# Altium footprint library WR-SMA.PcbLib: 26 footprints (part 1 of 2)
Each footprint in its own frame and in the unit in brackets; x right, y up, seen from the top. Pads: shape width x height; smd on the part's side, far side on the other; paste and mask are expansions set on the pad; w line width, h text height; cw(c..) or ccw(c..) is an arc to the next point about the centre after c.
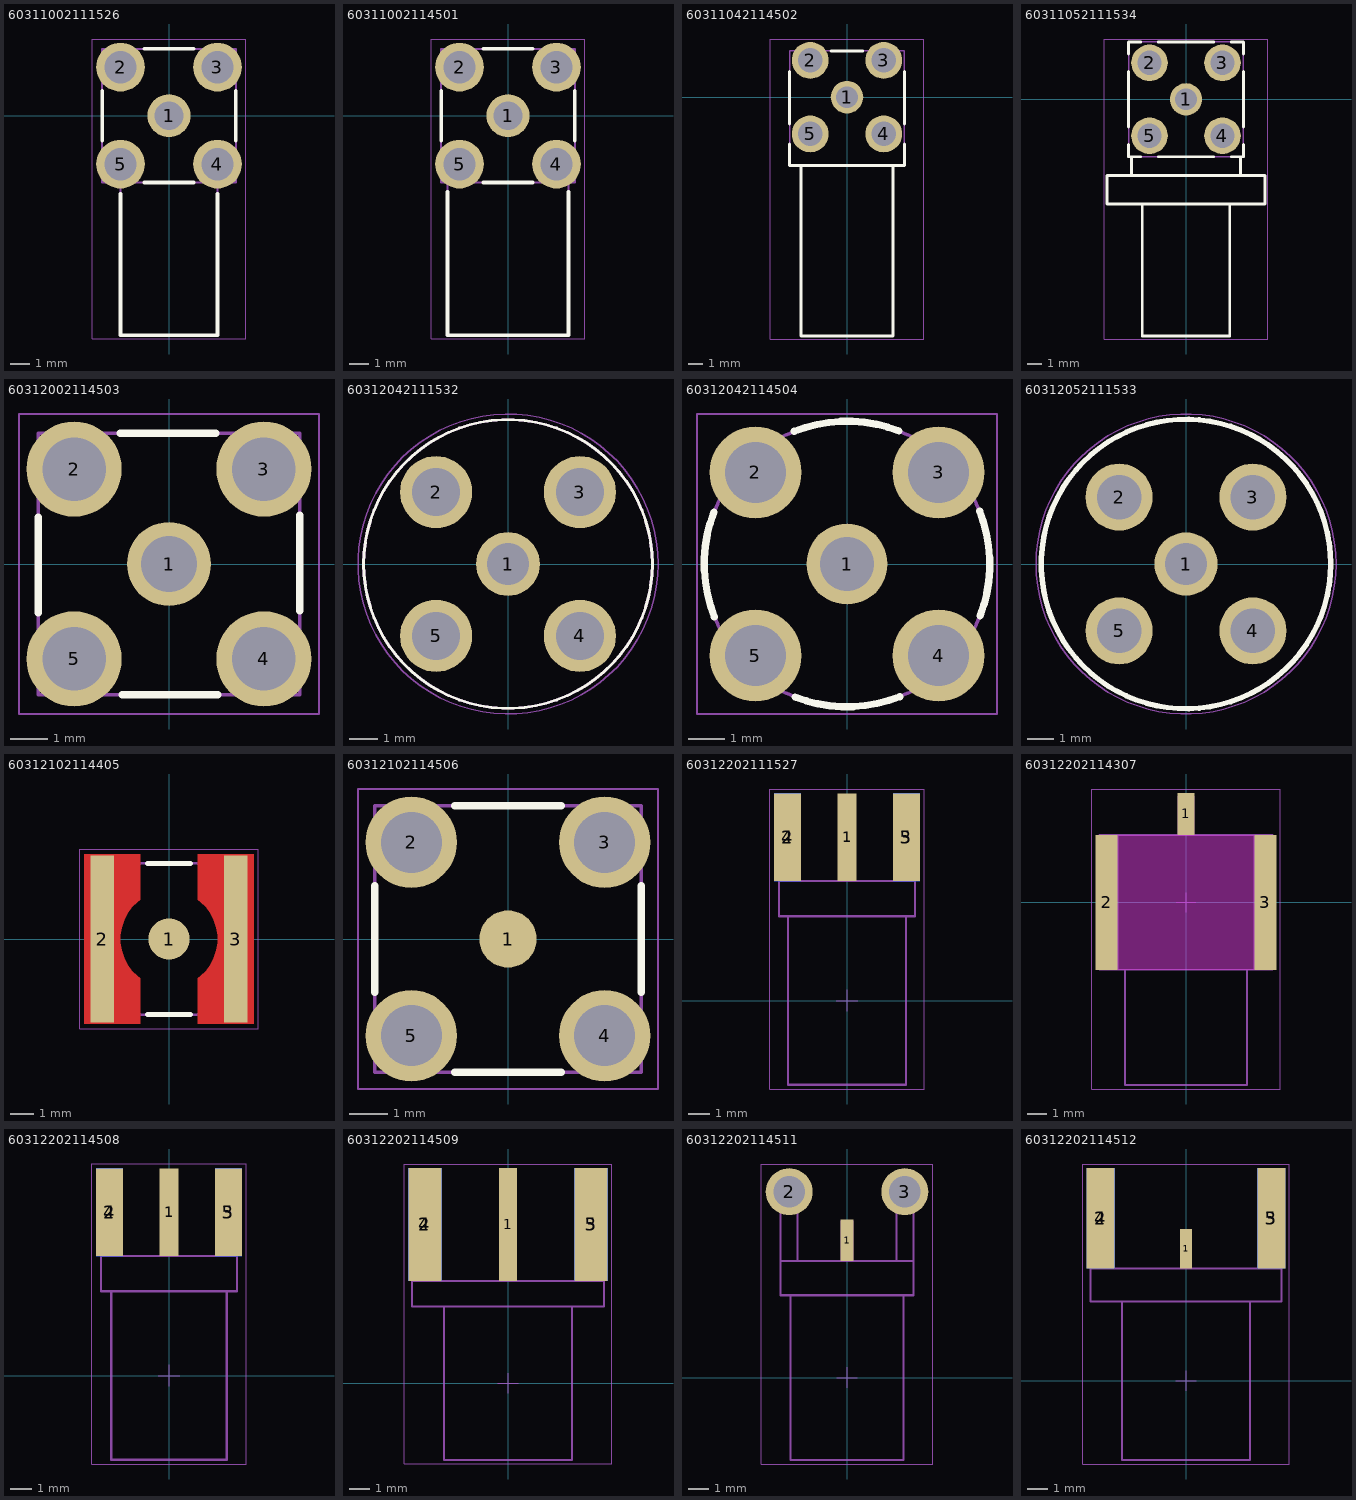
[diagram p0: the footprints below, top view; thin cyan lines are the x and y axes]

## 60311002111526 [mm] "SMA PCB THT Jack"
height 9.86
pads (5):
  round 2.25 hole 1.5: 1(0,0)
  round 2.55 hole 1.7: 2(-2.54,2.54) 3(2.54,2.54) 4(2.54,-2.54) 5(-2.54,-2.54)
Top Overlay:
  lines w0.2: -3.5,-1.3 -3.5,1.3 ; -2.54,-4.1 -2.54,-11.5 2.54,-11.5 2.54,-4.1 ; -1.3,-3.5 1.3,-3.5 ; -1.3,3.5 1.3,3.5 ; 3.5,-1.3 3.5,1.3
Top Designator:
  text ".Designator" at -7.498,-0.5 h1.5
Top Component Outline:
  lines w0.1: -2.54,-3.5 -2.54,-11.5 2.54,-11.5 2.54,-3.5 ; -3.5,-3.5 -3.5,3.5 3.5,3.5 3.5,-3.5 -3.5,-3.5
Top Courtyard:
  lines w0.05: -0.5,0 0.5,0 ; 0,-0.5 0,0.5 ; -4.015,-11.7 4.015,-11.7 4.015,4.015 -4.015,4.015 -4.015,-11.7
3D body "60311002111526.stp": height 9.86, standoff -3.94, extent -3.5,-11.5 3.5,3.5

## 60311002114501 [mm] "SMA PCB THT Jack Right Angle"
height 9.66
pads (5):
  round 2.25 hole 1.5: 1(0,0)
  round 2.55 hole 1.7: 2(-2.54,2.54) 3(2.54,2.54) 4(2.54,-2.54) 5(-2.54,-2.54)
Top Overlay:
  lines w0.2: -3.5,-1.3 -3.5,1.3 ; -3.175,-4 -3.175,-11.5 3.175,-11.5 3.175,-4 ; -1.3,-3.5 1.3,-3.5 ; -1.3,3.5 1.3,3.5 ; 3.5,-1.3 3.5,1.3
Top Designator:
  text ".Designator" at -7.498,-0.5 h1.5
Top Component Outline:
  lines w0.1: -3.175,-3.5 -3.175,-11.5 3.175,-11.5 3.175,-3.5 ; -3.5,-3.5 3.5,-3.5 3.5,3.5 -3.5,3.5 -3.5,-3.5
Top Courtyard:
  lines w0.05: -0.5,0 0.5,0 ; 0,-0.5 0,0.5 ; -4.015,-11.7 -4.015,4.015 4.015,4.015 4.015,-11.7 -4.015,-11.7
3D body "60311002114501.stp": height 9.66, standoff -3.94, extent -3.5,-11.502 3.5,3.5

## 60311042114502 [mm] "SMA PCB THT Jack Right Angle  Rear Mount Bulkhead"
height 10.46
pads (5):
  round 2.25 hole 1.5: 1(0,0)
  round 2.55 hole 1.7: 2(-2.54,2.54) 3(2.54,2.54) 4(2.54,-2.54) 5(-2.54,-2.54)
Top Overlay:
  lines w0.2: -3.96,-3.23 -3.96,-4.73 3.96,-4.73 3.96,-3.23 ; -3.96,-1.85 -3.96,1.77 ; -3.175,-4.73 -3.175,-16.5 3.175,-16.5 3.175,-4.73 ; -1.11,3.19 1.09,3.19 ; 3.96,-1.85 3.96,1.77
Top Designator:
  text ".Designator" at -7.498,-0.5 h1.5
Top Component Outline:
  lines w0.1: -3.175,-4.73 -3.175,-16.5 3.175,-16.5 3.175,-4.73 ; -3.96,-4.73 -3.96,3.19 3.96,3.19 3.96,-4.73 -3.96,-4.73
Top Courtyard:
  lines w0.05: -0.5,0 0.5,0 ; 0,-0.5 0,0.5 ; -5.3,-16.7 5.3,-16.7 5.3,4.015 -5.3,4.015 -5.3,-16.7
3D body "60311042114502.stp": height 12.16, standoff -3.94, extent -5.1,-16.5 5.1,3.19

## 60311052111534 [mm] "SMA PCB THT Right Angle Jack IP67"
height 10.44
pads (5):
  round 2.25 hole 1.5: 1(0,0)
  round 2.55 hole 1.7: 2(-2.54,2.54) 3(2.54,2.54) 4(2.54,-2.54) 5(-2.54,-2.54)
Top Overlay:
  lines w0.2: -4,-3.15 -4,-4 -3.15,-4 ; -4,-1.93 -4,1.93 ; -4,3.15 -4,4 -3.15,4 ; -3.8,-5.3 -3.8,-4 ; -3.05,-7.3 -3.05,-16.5 3.05,-16.5 3.05,-7.3 ; -1.93,-4 1.93,-4 ; -1.93,4 1.93,4 ; 3.15,-4 4,-4 4,-3.15 ; 3.15,4 4,4 4,3.15 ; 3.8,-5.3 3.8,-4 ; 4,-1.93 4,1.93 ; -5.5,-7.3 5.5,-7.3 5.5,-5.3 -5.5,-5.3 -5.5,-7.3
Top Designator:
  text ".Designator" at -7.498,-0.5 h1.5
Top Component Outline:
  lines w0.1: -3.8,-5.3 -3.8,-4 ; -3.05,-7.3 -3.05,-16.5 3.05,-16.5 3.05,-7.3 ; 3.8,-5.3 3.8,-4 ; -5.5,-7.3 5.5,-7.3 5.5,-5.3 -5.5,-5.3 -5.5,-7.3 ; -4,-4 4,-4 4,4 -4,4 -4,-4
Top Courtyard:
  lines w0.05: -0.5,0 0.5,0 ; 0,-0.5 0,0.5 ; -5.7,-16.7 5.7,-16.7 5.7,4.2 -5.7,4.2 -5.7,-16.7
3D body "60311052111534.stp": height 11.88, standoff -3.91, extent -5.5,-16.5 5.5,4

## 60312002114503 [mm] "SMA PCB THT Jack Straight"
height 9.56
pads (5):
  round 2.25 hole 1.5: 1(0,0)
  round 2.55 hole 1.7: 2(-2.54,2.54) 3(2.54,2.54) 4(2.54,-2.54) 5(-2.54,-2.54)
Top Overlay:
  lines w0.2: -3.5,-1.3 -3.5,1.25 ; -1.3,3.5 1.25,3.5 ; -1.25,-3.5 1.3,-3.5 ; 3.5,-1.25 3.5,1.3
Top Designator:
  text ".Designator" at -7.498,-0.5 h1.5
Top Component Outline:
  lines w0.1: -3.5,-3.5 3.5,-3.5 3.5,3.5 -3.5,3.5 -3.5,-3.5
Top Courtyard:
  lines w0.05: -0.5,0 0.5,0 ; 0,-0.5 0,0.5 ; -4.015,-4.015 -4.015,4.015 4.015,4.015 4.015,-4.015 -4.015,-4.015
3D body "60312002114503.stp": height 9.56, standoff -3.94, extent -3.5,-3.5 3.5,3.5

## 60312042111532 [mm] "SMA PCB THT Jack"
height 12.65
pads (5):
  round 2.25 hole 1.5: 1(0,0)
  round 2.55 hole 1.7: 2(-2.54,2.54) 3(2.54,2.54) 4(2.54,-2.54) 5(-2.54,-2.54)
Top Overlay:
  circle w0.1: c0,0 r5.1
Top Designator:
  text ".Designator" at -7.498,-0.5 h1.5
Top Component Outline:
  circle w0.1: c0,0 r5.1
Top Courtyard:
  circle w0.05: c0,0 r5.3
  lines w0.05: -0.5,0 0.5,0 ; 0,-0.5 0,0.5
3D body "60312042111532.stp": height 12.64, standoff -3.95, extent -7.212,-7.212 7.212,7.212

## 60312042114504 [mm] "SMA PCB THT Jack Straight Rear  Mount Bulkhead"
height 20.83
pads (5):
  round 2.25 hole 1.5: 1(0,0)
  round 2.55 hole 1.7: 2(-2.54,2.54) 3(2.54,2.54) 4(2.54,-2.54) 5(-2.54,-2.54)
Top Overlay:
  lines w0.2: -3.687,1.445 ccw(c0,0) -3.68,-1.462 ; -1.462,3.68 cw(c0,0) 1.445,3.687 ; -1.445,-3.687 ccw(c0,0) 1.462,-3.68 ; 3.68,1.462 cw(c0,0) 3.687,-1.445
Top Designator:
  text ".Designator" at -7.498,-0.5 h1.5
Top Component Outline:
  circle w0.1: c0,0 r3.96
Top Courtyard:
  lines w0.05: -0.5,0 0.5,0 ; 0,-0.5 0,0.5 ; -4.16,-4.16 -4.16,4.16 4.16,4.16 4.16,-4.16 -4.16,-4.16
3D body "60312042114504(1).step": height 20.9, standoff -3.87, extent -5.6,-5.6 5.601,5.601

## 60312052111533 [mm] "SMA PCB THT Straight Jack IP67"
height 17.4
pads (5):
  round 2.4 hole 1.6: 1(0,0)
  round 2.55 hole 1.7: 2(-2.54,2.54) 3(2.54,2.54) 4(2.54,-2.54) 5(-2.54,-2.54)
Top Overlay:
  circle w0.2: c0,0 r5.5
Top Designator:
  text ".Designator" at -7.498,-0.5 h1.5
Top Component Outline:
  circle w0.1: c0,0 r5.5
Top Courtyard:
  circle w0.05: c0,0 r5.7
  lines w0.05: -0.5,0 0.5,0 ; 0,-0.5 0,0.5
3D body "60312052111533.stp": height 17.44, standoff -3.9, extent -7.778,-7.778 7.778,7.778

## 60312102114405 [mm] "SMA PCB SMT Jack Straight"
height 8.84
pads (3):
  round 1.73 smd: 1(0,0)
  rect 1x7 smd: 2(-2.8,0) 3(2.8,0)
Top Layer:
  region: 3.555,-3.56 1.205,-3.56 1.205,-1.652 1.331,-1.553 1.557,-1.326 1.745,-1.067 1.89,-0.781 1.989,-0.477 2.039,-0.16 2.039,0.16 1.989,0.477 1.89,0.781 1.745,1.067 1.557,1.326 1.331,1.553 1.205,1.652 1.205,3.56 3.555,3.56
  region: -3.555,-3.56 -1.205,-3.56 -1.205,-1.652 -1.331,-1.553 -1.557,-1.326 -1.745,-1.067 -1.89,-0.781 -1.989,-0.477 -2.039,-0.16 -2.039,0.16 -1.989,0.477 -1.89,0.781 -1.745,1.067 -1.557,1.326 -1.331,1.553 -1.205,1.652 -1.205,3.56 -3.555,3.56
Top Overlay:
  lines w0.2: -0.9,-3.175 0.9,-3.175 ; -0.9,3.175 0.9,3.175
Top Designator:
  text ".Designator" at -7.498,-0.5 h1.5
Top Component Outline:
  lines w0.1: -3.175,-3.175 3.175,-3.175 3.175,3.175 -3.175,3.175 -3.175,-3.175
Top Courtyard:
  lines w0.05: -0.5,0 0.5,0 ; 0,-0.5 0,0.5 ; -3.755,-3.76 3.755,-3.76 3.755,3.76 -3.755,3.76 -3.755,-3.76
3D body "60312102114405.stp": height 8.84, standoff 0, extent -3.175,-3.175 3.175,3.175

## 60312102114506 [mm] "SMA PCB SMT Jack Straight with  THT Grounding Pins"
height 9.56
pads (5):
  round 1.5 smd: 1(0,0)
  round 2.4 hole 1.6: 2(-2.54,2.54) 3(2.54,2.54) 4(2.54,-2.54) 5(-2.54,-2.54)
Top Overlay:
  lines w0.2: -3.5,-1.4 -3.5,1.4 ; -1.4,-3.5 1.4,-3.5 ; -1.4,3.5 1.4,3.5 ; 3.5,-1.4 3.5,1.4
Top Designator:
  text ".Designator" at -7.498,-0.5 h1.5
Top Component Outline:
  lines w0.1: -3.5,-3.5 3.5,-3.5 3.5,3.5 -3.5,3.5 -3.5,-3.5
Top Courtyard:
  lines w0.05: -0.5,0 0.5,0 ; 0,-0.5 0,0.5 ; -3.94,-3.94 -3.94,3.94 3.94,3.94 3.94,-3.94 -3.94,-3.94
3D body "60312102114506.stp": height 9.56, standoff -3.94, extent -3.5,-3.5 3.5,3.5

## 60312202111527 [mm] "SMA PCB End Launch  Jack"
height 3.175
pads (5):
  rect 0.9x4.1 smd: 1(0,7.635)
  rect 1.25x4.1 smd: 2(-2.775,7.635) 3(2.775,7.635)
  rect 1.25x4.1 smd far side: 4(-2.775,7.635) 5(2.775,7.635)
Top Designator:
  text ".Designator" at -7.498,-0.5 h1.5
Top Notes (Mech5):
  lines w0.1: -3.175,5.585 3.175,5.585
  text "PCB END" at -2.2,4.335 h0.76
Top Component Outline:
  lines w0.1: -2.75,3.935 -2.75,-3.935 2.75,-3.935 2.75,3.935 ; -3.175,3.935 -3.175,9.395 -2.365,9.395 -2.365,5.585 -0.38,5.585 -0.38,9.395 0.38,9.395 0.38,5.585 2.365,5.585 2.365,9.395 3.175,9.395 3.175,3.935 -3.175,3.935
Top Courtyard:
  lines w0.05: -0.5,0 0.5,0 ; 0,-0.5 0,0.5 ; -3.6,-4.135 -3.6,9.885 3.6,9.885 3.6,-4.135 -3.6,-4.135
3D body "60312202111527.stp": height 3.55, standoff -2.8, extent -3.175,-3.935 3.175,9.395

## 60312202114307 [mm] "SMA PCB End Launch Jack SMT  Edge Card for 1.6mm PCB"
height 4
pads (3):
  rect 0.9x2.2 smd: 1(0,4.6)
  rect 1.15x7 smd: 2(-4.125,0) 3(4.125,0)
Keep-Out Layer:
  board cut-out: -3.55,-3.5 -3.55,3.5 3.55,3.5 3.55,-3.5
Top Designator:
  text ".Designator" at -7.498,-0.5 h1.5
Top Notes (Mech5):
  lines w0.1: -3.55,-3.5 -3.55,3.5 3.55,3.5 3.55,-3.5 -3.55,-3.5
  text "PCB Thickness 1.6m max." at -4,-10.2 h0.8
  text "PCB Cutout Area" at -2.7,-0.2 h0.8
  text "PCB End" at -1.7,-4.2 h0.8
Top Component Outline:
  lines w0.1: -4.5,-3.5 -4.5,3.5 -0.38,3.5 -0.38,5.5 0.38,5.5 0.38,3.5 4.5,3.5 4.5,-3.5 3.175,-3.5 3.175,-9.5 -3.175,-9.5 -3.175,-3.5 -4.5,-3.5
Top Courtyard:
  lines w0.05: -0.5,0 0.5,0 ; 0,-0.5 0,0.5 ; -4.9,-9.7 4.9,-9.7 4.9,5.9 -4.9,5.9 -4.9,-9.7
3D body "60312202114307.stp": height 4, standoff -3, extent -4.5,-9.5 4.5,5.5

## 60312202114508 [mm] "SMA PCB End Launch Jack Round  Post for 1.1mm PCB"
height 6.35
pads (5):
  rect 0.9x4.1 smd: 1(0,7.635)
  rect 1.25x4.1 smd: 2(-2.775,7.635) 3(2.775,7.635)
  rect 1.25x4.1 smd far side: 4(-2.775,7.635) 5(2.775,7.635)
Top Designator:
  text ".Designator" at -7.498,-0.5 h1.5
Top Notes (Mech5):
  lines w0.1: -3.175,5.585 3.175,5.585
  text "PCB Thickness 1.1mm" at -3.4,-4.765 h0.8
  text "PCB End" at -1.5,4.835 h0.8
Top Component Outline:
  lines w0.1: -2.7,3.935 -2.7,-3.935 2.7,-3.935 2.7,3.935 ; -3.175,3.935 -3.175,9.395 -2.365,9.395 -2.365,5.585 -0.38,5.585 -0.38,9.395 0.38,9.395 0.38,5.585 2.365,5.585 2.365,9.395 3.175,9.395 3.175,3.935 -3.175,3.935
Top Courtyard:
  lines w0.05: -0.5,0 0.5,0 ; 0,-0.5 0,0.5 ; -3.6,-4.135 -3.6,9.885 3.6,9.885 3.6,-4.135 -3.6,-4.135
3D body "60312202114508.stp": height 3.57, standoff -2.78, extent -3.175,-3.935 3.175,9.395

## 60312202114509 [mm] "SMA PCB End Launch Jack Round  Post for 1.6mm PCB"
height 7.92
pads (5):
  rect 0.9x5.6 smd: 1(0,7.88)
  rect 1.65x5.6 smd: 2(-4.125,7.88) 3(4.125,7.88)
  rect 1.65x5.6 smd far side: 4(-4.125,7.88) 5(4.125,7.88)
Top Designator:
  text ".Designator" at -7.498,-0.5 h1.5
Top Notes (Mech5):
  lines w0.1: -4.76,5.08 4.76,5.08
  text "PCB Thickness 1.6mm" at -3.4,-4.52 h0.8
  text "PCB End" at -1.5,4.38 h0.8
Top Component Outline:
  lines w0.1: -3.175,3.81 -3.175,-3.81 3.175,-3.81 3.175,3.81 ; -4.76,3.81 -4.76,10.46 -3.49,10.46 -3.49,5.08 -0.38,5.08 -0.38,10.46 0.38,10.46 0.38,5.08 3.49,5.08 3.49,10.46 4.76,10.46 4.76,3.81 -4.76,3.81
Top Courtyard:
  lines w0.05: -0.5,0 0.5,0 ; 0,-0.5 0,0.5 ; -5.15,-4.01 -5.15,10.88 5.15,10.88 5.15,-4.01 -5.15,-4.01
3D body "60312202114509.stp": height 4.36, standoff -3.56, extent -4.76,-3.81 4.76,10.46

## 60312202114511 [mm] "SMA PCB End Launch Jack Flat Tab  with THT Grounding Pins for 2.8mm  Max. PCB"
height 6.35
pads (3):
  rect 0.61x1.97 smd: 1(0,6.575)
  round 2.25 hole 1.52: 2(-2.77,8.9) 3(2.77,8.9)
Top Designator:
  text ".Designator" at -7.498,-0.5 h1.5
Top Notes (Mech5):
  lines w0.1: -3.175,5.59 3.175,5.59
  text "PCB End" at -1.4,4.89 h0.8
  text "PCB Thickness 2.8mm max." at -4.2,-4.71 h0.8
Top Component Outline:
  lines w0.1: -2.7,3.94 -2.7,-3.94 2.7,-3.94 2.7,3.94 ; -3.175,3.94 3.175,3.94 3.175,9.4 2.365,9.4 2.365,5.59 0.255,5.59 0.255,7.49 -0.255,7.49 -0.255,5.59 -2.365,5.59 -2.365,9.4 -3.175,9.4 -3.175,3.94
Top Courtyard:
  lines w0.05: -0.5,0 0.5,0 ; 0,-0.5 0,0.5 ; -4.095,-4.14 4.095,-4.14 4.095,10.225 -4.095,10.225 -4.095,-4.14
3D body "60312202114511.stp": height 3.32, standoff -3.03, extent -3.175,-3.94 3.175,9.4

## 60312202114512 [mm] "SMA PCB End Launch Jack Flat  Tab for 1.1mm PCB"
height 7.92
pads (5):
  rect 0.61x1.97 smd: 1(0,6.57)
  rect 1.4x5 smd: 2(-4.25,8.085) 3(4.25,8.085)
  rect 1.4x5 smd far side: 4(-4.25,8.085) 5(4.25,8.085)
Top Designator:
  text ".Designator" at -7.498,-0.5 h1.5
Top Notes (Mech5):
  lines w0.1: -4.76,5.585 4.76,5.585
  text "PCB Thickness 1.1mm" at -3.7,-4.615 h0.8
  text "PCB End" at -1.5,4.885 h0.8
Top Component Outline:
  lines w0.1: -3.175,3.945 -3.175,-3.945 3.175,-3.945 3.175,3.945 ; -4.76,3.945 4.76,3.945 4.76,10.345 3.74,10.345 3.74,5.585 0.255,5.585 0.255,7.485 -0.255,7.485 -0.255,5.585 -3.74,5.585 -3.74,10.345 -4.76,10.345 -4.76,3.945
Top Courtyard:
  lines w0.05: -0.5,0 0.5,0 ; 0,-0.5 0,0.5 ; -5.15,-4.145 5.15,-4.145 5.15,10.785 -5.15,10.785 -5.15,-4.145
3D body "60312202114512.stp": height 4.11, standoff -3.82, extent -4.76,-3.945 4.76,10.345